# Altium schematic symbol library Display - 160x128 TFT Adafruit.Schlib: 1 symbol
Pins are listed as number, name and electrical type; pins without a type are passive.

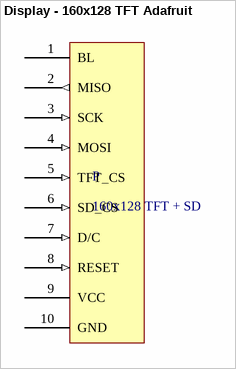
[diagram p0: symbol Display - 160x128 TFT Adafruit]

## Display - 160x128 TFT Adafruit
designator P, comment 160x128 TFT + SD
160x128 TFT display w/uSD Card Breakout by AdaFruit
pins: 1 BL, 2 MISO (out), 3 SCK (in), 4 MOSI (in), 5 TFT_CS (in), 6 SD_CS (in), 7 D/C (in), 8 RESET (in), 9 VCC, 10 GND